# Altium footprint library Flexiwatt25.PcbLib: 1 footprints
Each footprint in its own frame and in the unit in brackets; x right, y up, seen from the top. Pads: shape width x height; smd on the part's side, far side on the other; paste and mask are expansions set on the pad; w line width, h text height; cw(c..) or ccw(c..) is an arc to the next point about the centre after c.
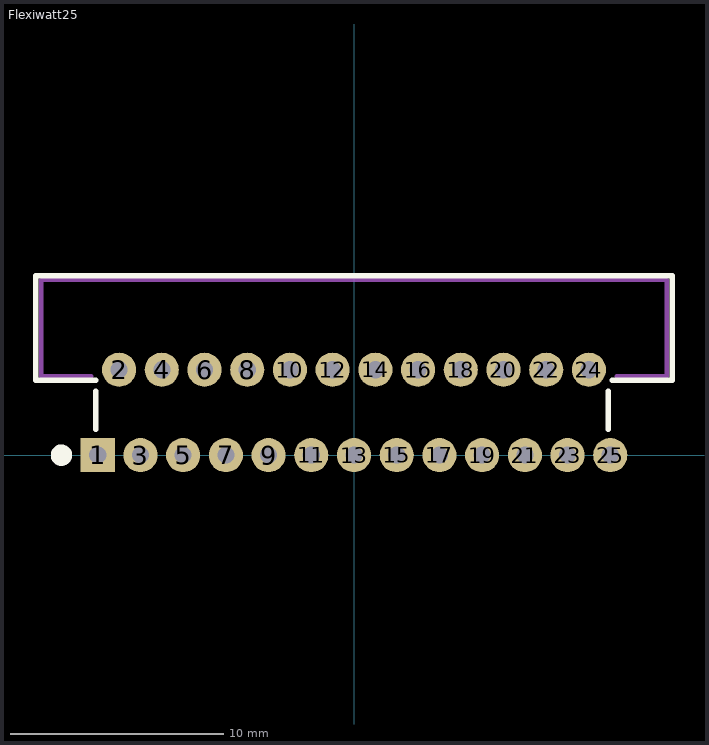
[diagram p0: the footprint, top view; thin cyan lines are the x and y axes]

## Flexiwatt25 [mm] "Stepping Motor Driver IC"
pads (25):
  rect 1.6x1.6 hole 0.8: 1(-12,0)
  round 1.6 hole 0.8: 2(-11,4) 3(-10,0) 4(-9,4) 5(-8,0) 6(-7,4) 7(-6,0) 8(-5,4) 9(-4,0) 10(-3,4) 11(-2,0) 12(-1,4) 13(0,0) 14(1,4) 15(2,0) 16(3,4) 17(4,0) 18(5,4) 19(6,0) 20(7,4) 21(8,0) 22(9,4) 23(10,0) 24(11,4) 25(12,0)
Top Overlay:
  circle w0.5: c-13.7,0 r0.25
  lines w0.254: -12.1,1.2 -12.1,3 ; -12.1,3.5 -14.9,3.5 -14.9,8.4 14.9,8.4 14.9,3.5 12.1,3.5 ; 11.9,1.2 11.9,3
Mechanical 13:
  lines w0.2: -12.3,3.7 -14.65,3.7 -14.65,8.2 14.65,8.2 14.65,3.7 12.3,3.7